# Altium schematic symbol library A车主控lib.SchLib: 1 symbol
Pins are listed as number, name and electrical type; pins without a type are passive.

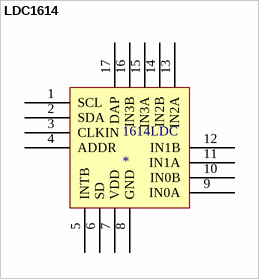
[diagram p0: symbol LDC1614]

## LDC1614
designator 1614LDC
footprint LDC1614 (QFN, 16-Leads, Body 4.00x4.00mm, Pitch 0.50mm, Thermal Pad 1.74x1.74mm, IPC Medium Density)
pins: 1 SCL, 2 SDA, 3 CLKIN, 4 ADDR, 5 INTB, 6 SD, 7 VDD, 8 GND, 9 IN0A, 10 IN0B, 11 IN1A, 12 IN1B, 13 IN2A, 14 IN2B, 15 IN3A, 16 IN3B, 17 DAP